# Altium footprint library Transistor_Pcb.PcbLib: 2 footprints
Each footprint in its own frame and in the unit in brackets; x right, y up, seen from the top. Pads: shape width x height; smd on the part's side, far side on the other; paste and mask are expansions set on the pad; w line width, h text height; cw(c..) or ccw(c..) is an arc to the next point about the centre after c.
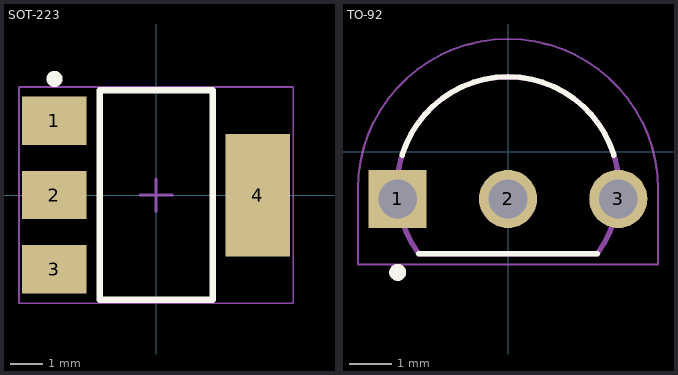
[diagram p0: the footprints below, top view; thin cyan lines are the x and y axes]

## SOT-223 [mm] "SOT223, 4-Leads, Body 6.5x3.5mm, Pitch 2.3mm"
height 1.75
pads (4):
  rect 2x1.5 smd: 1(-3.15,2.3) 2(-3.15,0) 3(-3.15,-2.3)
  rect 2x3.8 smd: 4(3.15,0)
Top Overlay:
  circle w0.25: c-3.15,3.6 r0.125
  lines w0.2: -1.75,-3.25 1.75,-3.25 1.75,3.25 -1.75,3.25 -1.75,-3.2
Mechanical 13:
  lines w0.1: -1.75,-3.25 -1.75,3.25 1.75,3.25 1.75,-3.25 -1.75,-3.25
  text "'.designator'" at -1.209,2.286 h1
Mechanical 15:
  lines w0.05: -4.25,-3.35 4.25,-3.35 4.25,3.35 -4.25,3.35 -4.25,-3.35
  lines w0.1: -0.5,0 0.5,0 ; 0,-0.5 0,0.5
3D body "ALSRobot-SOT-223.step": height 1.66, standoff 0.01, extent -3.5,-3.25 3.5,3.25

## TO-92 [mm]
pads (3):
  rect 1.37x1.37 hole 0.91: 1(-2.6,-1.112)
  round 1.37 hole 0.91: 2(0,-1.112) 3(2.6,-1.112)
Top Overlay:
  circle w0.2: c-2.6,-2.843 r0.1
  lines w0.127: -2.493,-0.078 cw(c0,-0.841) 2.493,-0.078 ; -2.102,-2.408 2.102,-2.408
Mechanical 13:
  circle w0.2: c-2.6,-2.843 r0.1
  lines w0.127: -2.115,-2.39 cw(c0,-0.853) 2.115,-2.39 ; -2.102,-2.408 2.102,-2.408
Mechanical 15:
  lines w0.05: -3.535,-2.66 -3.535,-0.878 cw(c0,-0.878) 3.535,-0.878 3.535,-2.66 -3.535,-2.66
3D body "TO-92W.step": height 6.7, standoff -4.6, extent -2.765,-2.663 2.765,1.437